# Altium footprint library RDN0011A-MFG.PCBLIB: 1 footprints
Each footprint in its own frame and in the unit in brackets; x right, y up, seen from the top. Pads: shape width x height; smd on the part's side, far side on the other; paste and mask are expansions set on the pad; w line width, h text height; cw(c..) or ccw(c..) is an arc to the next point about the centre after c.
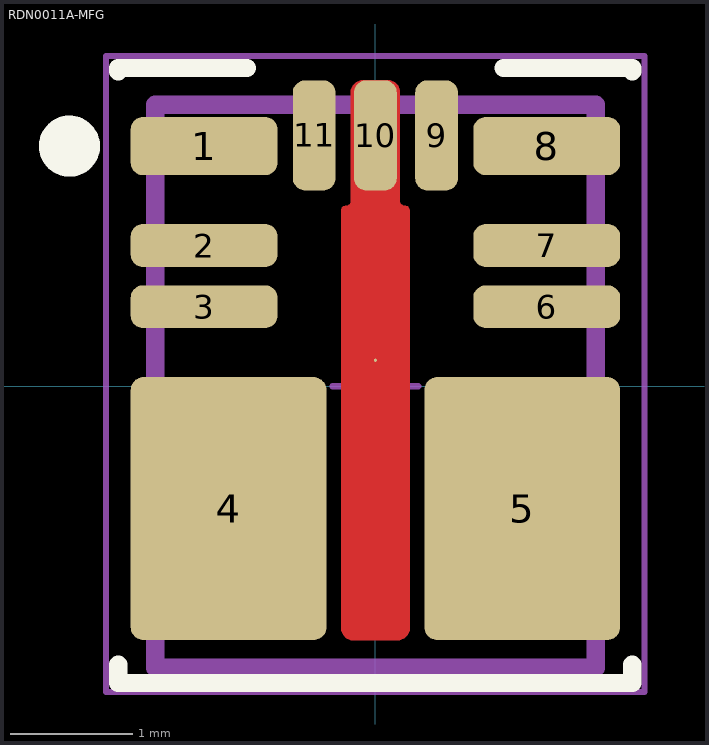
[diagram p0: the footprint, top view; thin cyan lines are the x and y axes]

## RDN0011A-MFG [mm]
pads (12):
  rrect42% 1.2x0.475 smd paste-1000 mask-1000: 1(-1.4,1.962) 8(1.4,1.962)
  rrect57% 1.2x0.35 smd paste-1000 mask-1000: 2(-1.4,1.15) 3(-1.4,0.65) 6(1.4,0.65) 7(1.4,1.15)
  rrect13% 1.6x2.15 smd paste-1000 mask-1000: 4(-1.2,-1) 5(1.2,-1)
  rrect57% 0.35x0.9 smd paste-1000 mask-1000: 9(0.5,2.05) 10(0,2.05) 11(-0.5,2.05)
  round 0.025 smd: 10(0,0.212)
Top Layer:
  region: -0.2,2.4 -0.2,2.42 -0.185,2.457 -0.157,2.485 -0.12,2.5 -0.1,2.5 0.1,2.5 0.12,2.5 0.157,2.485 0.185,2.457 0.2,2.42 0.2,2.4 0.2,1.515 0.201,1.507 0.207,1.493 0.218,1.482 0.232,1.476 0.24,1.475 0.248,1.475 0.263,1.469 0.274,1.458 0.28,1.443 0.28,1.435 0.28,-1.975 0.28,-1.995 0.265,-2.032 0.237,-2.06 0.2,-2.075 0.18,-2.075 -0.18,-2.075 -0.2,-2.075 -0.237,-2.06 -0.265,-2.032 -0.28,-1.995 -0.28,-1.975 -0.28,1.435 -0.28,1.443 -0.274,1.458 -0.263,1.469 -0.248,1.475 -0.24,1.475 -0.232,1.476 -0.218,1.482 -0.207,1.493 -0.201,1.507 -0.2,1.515
Top Overlay:
  circle w0.25: c-2.5,1.962 r0.125
  lines w0.15: -2.1,-2.275 -2.1,-2.425 2.1,-2.425 2.1,-2.275 ; -2.1,2.575 -2.1,2.6 -1.05,2.6 ; 1.05,2.6 2.1,2.6 2.1,2.575
Top Paste:
  drawing of 23 lines, arcs and shapes, not listed
Top Solder:
  drawing of 11 lines, arcs and shapes, not listed
Top Assembly:
  lines w0.15: -1.8,-2.3 1.8,-2.3 1.8,2.3 -1.8,2.3 -1.8,-2.3
Top Courtyard:
  lines w0.05: -2.2,-2.5 2.2,-2.5 2.2,2.7 -2.2,2.7 -2.2,-2.5
Top Designator:
  text ".Designator" at 0.05,0.317 h0.5
Top Component Center:
  lines w0.05: -0.35,0 0.35,0 ; 0,-0.35 0,0.35
3D body "IC_TPSM365R6FRDNR_QFN-FCMOD11.STEP": height 0.25, standoff 0, extent -2.1,-2.4 2.1,2.6